# Altium schematic symbol library led_Schlib1.SchLib: 4 symbols
Pins are listed as number, name and electrical type; pins without a type are passive.

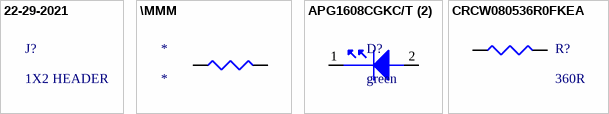
[diagram p0: symbols 22-29-2021 to CRCW080536R0FKEA]

## 22-29-2021
designator J?, comment 1X2 HEADER
KK 254 Wire-to-Board Header, Vertical, with Friction Lock, 2 Circuits, Gold (Au) Plating; Manufacturer: Molex; Manufacturer Lifecycle Status: ACTIVE; Contact Resistance: 10mΩ; Current Rating: 4A; Dielectric Material: Polyamide; Gender: Male; Glow Wire Compliant: Non-compliant; Insulation Resistance: 1GΩ; Max Voltage Rating (AC): 250V; Number of Circuits: 2; Pitch: 2.54mm; Plating: Tin; Plating Thickness: 508nm; Voltage Rating: 500V; Parameter 1: Connectors; Supplier: Arrow Electronics; Supplier Part Number: 0022292021; Manufacturer Part Number: 22-29-2021; RoHS: Compliant; Category: Headers and Wire Housings; Stock: 66; Pricing: 1=0.2896, 10=0.265 (USD); China RoHS: Compliant; Color: White; Contact Gender: Male; Contact Material: Brass; Contact Plating: Gold; Country of Origin: US; Depth: 5.8mm; Flammability Rating: UL94 V-0; Halogen Free: Low Halogen; Height: 12.05mm; Housing Color: White; Housing Material: Nylon; Lead Free: Lead Free; Lead Pitch: 2.54mm; Length: 12.7mm; Lifecycle Status: Production; Max Current Rating: 4A; Max Operating Temperature: 75°C; Min Operating Temperature: 0°C; Mounting Technology: Through Hole; Number of Contacts: 2; Pins: 2; Number of Positions: 2; Number of Rows: 1; Orientation: Right Angle, Vertical; Packaging: Bulk; Radiation Hardening: No; REACH SVHC: Yes; Schedule B: 8536694040, 8536694040|8536694040|8536694040|8536694040|8536694040|8536694040|8536694040|8536694040|8536694040|8536694040|8536694040|8536694040|8536694040|8536694040|8536694040|8536694040|8536694040|8536694040|8536694040|8536694040|8536694040|8536694040|8536694040|85; Terminal Pitch: 2.54mm; Termination: Through Hole; Voltage Rating (DC): 250V; ComponentLink1URL: https://sigma.octopart.com:443/81843831/technical_drawing/Molex-22-29-2021.pdf?src-supplier=Upverter; ComponentLink1Description: https://sigma.octopart.com:443/81843831/technical_drawing/Molex-22-29-2021.pdf?src-supplier=Upverter; ComponentLink2URL: https://datasheet.octopart.com:443/22-29-2021-Molex-datasheet-12556036.pdf?src-supplier=Molex; ComponentLink2Description: https://datasheet.octopart.com:443/22-29-2021-Molex-datasheet-12556036.pdf?src-supplier=Molex; ComponentLink3URL: https://datasheet.octopart.com:443/22-29-2021-Molex-datasheet-10979409.pdf?src-supplier=Molex; ComponentLink3Description: https://datasheet.octopart.com:443/22-29-2021-Molex-datasheet-10979409.pdf?src-supplier=Molex; ComponentLink4URL: https://datasheet.octopart.com:443/022292021-Molex-datasheet-5315839.pdf?src-supplier=Farnell; ComponentLink4Description: https://datasheet.octopart.com:443/022292021-Molex-datasheet-5315839.pdf?src-supplier=Farnell; ComponentLink5URL: https://datasheet.octopart.com:443/22-29-2021-Molex-datasheet-101581899.pdf?src-supplier=Farnell; ComponentLink5Description: https://datasheet.octopart.com:443/22-29-2021-Molex-datasheet-101581899.pdf?src-supplier=Farnell; ComponentLink6URL: https://datasheet.octopart.com:443/22-29-2021-Molex-datasheet-13556931.pdf?src-supplier=Farnell; ComponentLink6Description: https://datasheet.octopart.com:443/22-29-2021-Molex-datasheet-13556931.pdf?src-supplier=Farnell; ComponentLink7URL: https://datasheet.octopart.com:443/22-29-2021-Molex-datasheet-506551.pdf?src-supplier=Farnell; ComponentLink7Description: https://datasheet.octopart.com:443/22-29-2021-Molex-datasheet-506551.pdf?src-supplier=Farnell; ComponentLink8URL: https://datasheet.octopart.com:443/22-29-2021-Molex-datasheet-154747399.pdf?src-supplier=Master+Electronics; ComponentLink8Description: https://datasheet.octopart.com:443/22-29-2021-Molex-datasheet-154747399.pdf?src-supplier=Master+Electronics; ComponentLink9URL: https://datasheet.octopart.com:443/22-29-2021-Molex-datasheet-140181368.pdf?src-supplier=RS+(Formerly+Allied+Electronics); ComponentLink9Description: https://datasheet.octopart.com:443/22-29-2021-Molex-datasheet-140181368.pdf?src-supplier=RS+(Formerly+Allied+Electronics); ComponentLink10URL: https://datasheet.octopart.com:443/22-29-2021-Molex-datasheet-120146429.pdf?src-supplier=RS+(Formerly+Allied+Electronics); ComponentLink10Description: https://datasheet.octopart.com:443/22-29-2021-Molex-datasheet-120146429.pdf?src-supplier=RS+(Formerly+Allied+Electronics); ComponentLink11URL: https://datasheet.octopart.com:443/22-29-2021-Molex-datasheet-62280240.pdf?src-supplier=Electro+Sonic; ComponentLink11Description: https://datasheet.octopart.com:443/22-29-2021-Molex-datasheet-62280240.pdf?src-supplier=Electro+Sonic; ComponentLink12URL: https://datasheet.octopart.com:443/22-29-2021-Molex-datasheet-37169030.pdf?src-supplier=Electro+Sonic; ComponentLink12Description: https://datasheet.octopart.com:443/22-29-2021-Molex-datasheet-37169030.pdf?src-supplier=Electro+Sonic; ComponentLink13URL: https://datasheet.octopart.com:443/22-29-2021-Molex-datasheet-23709171.pdf?src-supplier=Electro+Sonic; ComponentLink13Description: https://datasheet.octopart.com:443/22-29-2021-Molex-datasheet-23709171.pdf?src-supplier=Electro+Sonic; ComponentLink14URL: https://datasheet.octopart.com:443/22-29-2021-Molex-datasheet-33002381.pdf?src-supplier=Newark; ComponentLink14Description: https://datasheet.octopart.com:443/22-29-2021-Molex-datasheet-33002381.pdf?src-supplier=Newark; ComponentLink15URL: https://datasheet.octopart.com:443/22-29-2021-Molex-datasheet-21827057.pdf?src-supplier=Newark; ComponentLink15Description: https://datasheet.octopart.com:443/22-29-2021-Molex-datasheet-21827057.pdf?src-supplier=Newark; ComponentLink16URL: https://datasheet.octopart.com:443/22-29-2021-Molex-datasheet-21206998.pdf?src-supplier=Newark; ComponentLink16Description: https://datasheet.octopart.com:443/22-29-2021-Molex-datasheet-21206998.pdf?src-supplier=Newark; ComponentLink17URL: https://datasheet.octopart.com:443/22-29-2021-Molex-datasheet-144804.pdf?src-supplier=DigiKey; ComponentLink17Description: https://datasheet.octopart.com:443/22-29-2021-Molex-datasheet-144804.pdf?src-supplier=DigiKey; ComponentLink18URL: https://datasheet.octopart.com:443/22-29-2021-Molex-datasheet-7277451.pdf?src-supplier=Jameco; ComponentLink18Description: https://datasheet.octopart.com:443/22-29-2021-Molex-datasheet-7277451.pdf?src-supplier=Jameco; ComponentLink19URL: https://datasheet.octopart.com:443/22-29-2021-Molex-datasheet-17586671.pdf?src-supplier=TME; ComponentLink19Description: https://datasheet.octopart.com:443/22-29-2021-Molex-datasheet-17586671.pdf?src-supplier=TME; ComponentLink20URL: http://sigma.octopart.com:80/16301842/rohs_statement/Molex-22-29-2021.pdf?src-supplier=Compliance+Statements; ComponentLink20Description: http://sigma.octopart.com:80/16301842/rohs_statement/Molex-22-29-2021.pdf?src-supplier=Compliance+Statements; ComponentLink21URL: http://sigma.octopart.com:80/conflict_mineral_statement/Molex-company-72.pdf?src-supplier=Compliance+Statements; ComponentLink21Description: http://sigma.octopart.com:80/conflict_mineral_statement/Molex-company-72.pdf?src-supplier=Compliance+Statements; ComponentLink22URL: http://sigma.octopart.com:80/rohs_statement/Molex-company-73.pdf?src-supplier=Compliance+Statements; ComponentLink22Description: http://sigma.octopart.com:80/rohs_statement/Molex-company-73.pdf?src-supplier=Compliance+Statements; ComponentLink23URL: http://sigma.octopart.com:80/reach_statement/Molex-company-74.pdf?src-supplier=Compliance+Statements; ComponentLink23Description: http://sigma.octopart.com:80/reach_statement/Molex-company-74.pdf?src-supplier=Compliance+Statements
footprint HEADER1X2
pins: 1 +, 2 -

## \MMM
designator *
footprint R0805
pins: 1, 2

## APG1608CGKC/T (2)
designator D?, comment green
APG1608CGKC/T Green LED; 570 nm 1608 (0603) Clear; Rectangle Lens SMD package; Manufacturer: Kingbright; Dominant Wavelength: 570nm; Forward Current: 30mA; Forward Voltage: 2.6V; Lens Color: Clear, Colorless; Luminous Intensity: 60mcd; Max Junction Temperature (Tj): 115°C; Number of Circuits: 1; Peak Wavelength: 574nm; Power Dissipation: 78mW; Reverse Voltage: 5V; Shape: Rectangular; Test Current: 20mA; Viewing Angle: 120°; Parameter 1: optoelectronics; Supplier: DigiKey; Supplier Part Number: 754-1357-1-ND; Manufacturer Part Number: APG1608CGKC/T; RoHS: Compliant; Category: LEDs; Stock: 126174; Pricing: 1=0.23, 10=0.155, 100=0.1081, 500=0.08668, 1000=0.07958, 2000=0.07354 (USD); Case/Package: 0603; Case Code (Imperial): 0603; Case Code (Metric): 1608; China RoHS: Compliant; Color: Green; Height: 250µm; Illumination Color: Green; Lead Free: Lead Free; Length: 1.6mm; Lens Style: Clear; Lens Transparency: Clear; Lifecycle Status: Production; Max Operating Temperature: 85°C; Min Operating Temperature: -40°C; Mounting Technology: Surface Mount; Number of LEDs: 1; Pins: 2; Number of Terminals: 2; Packaging: Cut Tape (CT); Power Rating: 78mW; REACH SVHC: Yes; Schedule B: 8541402000, 8541402000|8541402000, 8541402000|8541402000|8541402000, 8541402000|8541402000|8541402000|8541402000; Terminal Pitch: 1.65mm; Wavelength: 570nm; Width: 800µm; ComponentLink1URL: https://datasheet.octopart.com:443/APG1608CGKC-T-Kingbright-datasheet-151943023.pdf?src-supplier=IHS; ComponentLink1Description: https://datasheet.octopart.com:443/APG1608CGKC-T-Kingbright-datasheet-151943023.pdf?src-supplier=IHS; ComponentLink2URL: https://datasheet.octopart.com:443/APG1608CGKC/T-Kingbright-datasheet-8862396.pdf?src-supplier=IHS; ComponentLink2Description: https://datasheet.octopart.com:443/APG1608CGKC/T-Kingbright-datasheet-8862396.pdf?src-supplier=IHS; ComponentLink3URL: https://datasheet.octopart.com:443/APG1608CGKC/T-Kingbright-datasheet-12532619.pdf?src-supplier=Sager+Electronics; ComponentLink3Description: https://datasheet.octopart.com:443/APG1608CGKC/T-Kingbright-datasheet-12532619.pdf?src-supplier=Sager+Electronics
footprint LED0603G
pins: 1, 2

## CRCW080536R0FKEA
designator R?, comment 360R
Res Thick Film 0805 36 Ohm 1% 0.125W(1/8W) ±100ppm/C Pad SMD Automotive T/R; Manufacturer: Vishay; Manufacturer Part Number: CRCW080536R0FKEA; Manufacturer Package Identifier: CRCW0805-e3; Max Power Dissipation: 125mW; Value: 360Ω; Temperature Coefficient: 100ppm/°C; Voltage Rating: 150V; Parameter 1: resistors; Supplier: DigiKey; Supplier Part Number: 541-36.0CCT-ND; RoHS: Compliant; Category: Chip SMD Resistors; Stock: 17786; Pricing: 1=0.1, 10=0.041, 25=0.0312, 50=0.0256, 100=0.0212, 250=0.01692, 500=0.01448, 1000=0.01254 (USD); Case/Package: 0805; Case Code (Imperial): 0805; China RoHS: Non-Compliant; Composition: Thick Film; Contact Plating: Tin; Depth: 1.25mm; Features: Automotive AEC-Q200; Height: 450µm; Lead Free: Lead Free; Length: 2mm; Lifecycle Status: Production; Max Operating Temperature: 155°C; Military Standard: Not; Min Operating Temperature: -55°C; Mounting Technology: Surface Mount; Pins: 2; Number of Terminals: 2; Number of Terminations: 2; Packaging: Cut Tape; Power Dissipation: 125mW; Power Rating: 125mW; REACH SVHC: Yes; Schedule B: 8533210045; Termination: SMD/SMT; Tolerance: 1%; Voltage Rating (DC): 150V; Weight: 5.499807mg; Width: 1.25mm; Working Voltage: 150V; ComponentLink1URL: https://datasheet.octopart.com:443/CRCW080536R0FKEA-Vishay-datasheet-175423584.pdf?src-supplier=IHS; ComponentLink1Description: https://datasheet.octopart.com:443/CRCW080536R0FKEA-Vishay-datasheet-175423584.pdf?src-supplier=IHS; ComponentLink2URL: https://datasheet.octopart.com:443/CRCW080536R0FKEA-Vishay-datasheet-78776209.pdf?src-supplier=element14+APAC; ComponentLink2Description: https://datasheet.octopart.com:443/CRCW080536R0FKEA-Vishay-datasheet-78776209.pdf?src-supplier=element14+APAC; ComponentLink3URL: https://datasheet.octopart.com:443/CRCW080536R0FKEA-Vishay-datasheet-66077789.pdf?src-supplier=element14+APAC; ComponentLink3Description: https://datasheet.octopart.com:443/CRCW080536R0FKEA-Vishay-datasheet-66077789.pdf?src-supplier=element14+APAC; ComponentLink4URL: https://datasheet.octopart.com:443/CRCW080536R0FKEA.-Vishay-datasheet-83961561.pdf?src-supplier=element14+APAC; ComponentLink4Description: https://datasheet.octopart.com:443/CRCW080536R0FKEA.-Vishay-datasheet-83961561.pdf?src-supplier=element14+APAC; ComponentLink5URL: https://datasheet.octopart.com:443/CRCW080536R0FKEA-Vishay-datasheet-14722531.pdf?src-supplier=element14+APAC; ComponentLink5Description: https://datasheet.octopart.com:443/CRCW080536R0FKEA-Vishay-datasheet-14722531.pdf?src-supplier=element14+APAC; ComponentLink6URL: https://datasheet.octopart.com:443/CRCW080536R0FKEA-Vishay-Dale-datasheet-41169522.pdf?src-supplier=element14+APAC; ComponentLink6Description: https://datasheet.octopart.com:443/CRCW080536R0FKEA-Vishay-Dale-datasheet-41169522.pdf?src-supplier=element14+APAC; ComponentLink7URL: https://datasheet.octopart.com:443/CRCW080536R0FKEA-Vishay-datasheet-41195454.pdf?src-supplier=Farnell; ComponentLink7Description: https://datasheet.octopart.com:443/CRCW080536R0FKEA-Vishay-datasheet-41195454.pdf?src-supplier=Farnell; ComponentLink8URL: https://datasheet.octopart.com:443/CRCW080536R0FKEA-Vishay-datasheet-11761042.pdf?src-supplier=Newark; ComponentLink8Description: https://datasheet.octopart.com:443/CRCW080536R0FKEA-Vishay-datasheet-11761042.pdf?src-supplier=Newark; ComponentLink9URL: https://datasheet.octopart.com:443/CRCW080536R0FKEA-Vishay-datasheet-11516975.pdf?src-supplier=Newark; ComponentLink9Description: https://datasheet.octopart.com:443/CRCW080536R0FKEA-Vishay-datasheet-11516975.pdf?src-supplier=Newark; ComponentLink10URL: https://datasheet.octopart.com:443/CRCW080536R0FKEA-Vishay-datasheet-159614168.pdf?src-supplier=Newark; ComponentLink10Description: https://datasheet.octopart.com:443/CRCW080536R0FKEA-Vishay-datasheet-159614168.pdf?src-supplier=Newark; ComponentLink11URL: https://datasheet.octopart.com:443/CRCW080536R0FKEA-Vishay-datasheet-21268114.pdf?src-supplier=Newark; ComponentLink11Description: https://datasheet.octopart.com:443/CRCW080536R0FKEA-Vishay-datasheet-21268114.pdf?src-supplier=Newark; ComponentLink12URL: https://datasheet.octopart.com:443/CRCW080536R0FKEA-Vishay-datasheet-8445837.pdf?src-supplier=element14; ComponentLink12Description: https://datasheet.octopart.com:443/CRCW080536R0FKEA-Vishay-datasheet-8445837.pdf?src-supplier=element14; ComponentLink13URL: https://datasheet.octopart.com:443/CRCW080536R0FKEA-Vishay-datasheet-5300368.pdf?src-supplier=Future+Electronics; ComponentLink13Description: https://datasheet.octopart.com:443/CRCW080536R0FKEA-Vishay-datasheet-5300368.pdf?src-supplier=Future+Electronics; ComponentLink14URL: http://sigma.octopart.com:80/rohs_statement/Vishay-company-15.pdf?src-supplier=Compliance+Statements; ComponentLink14Description: http://sigma.octopart.com:80/rohs_statement/Vishay-company-15.pdf?src-supplier=Compliance+Statements
footprint R0805
footprint R0805
pins: 1, 2